# Altium footprint library 拨码开关2.PcbLib: 1 footprints
Each footprint in its own frame and in the unit in brackets; x right, y up, seen from the top. Pads: shape width x height; smd on the part's side, far side on the other; paste and mask are expansions set on the pad; w line width, h text height; cw(c..) or ccw(c..) is an arc to the next point about the centre after c.
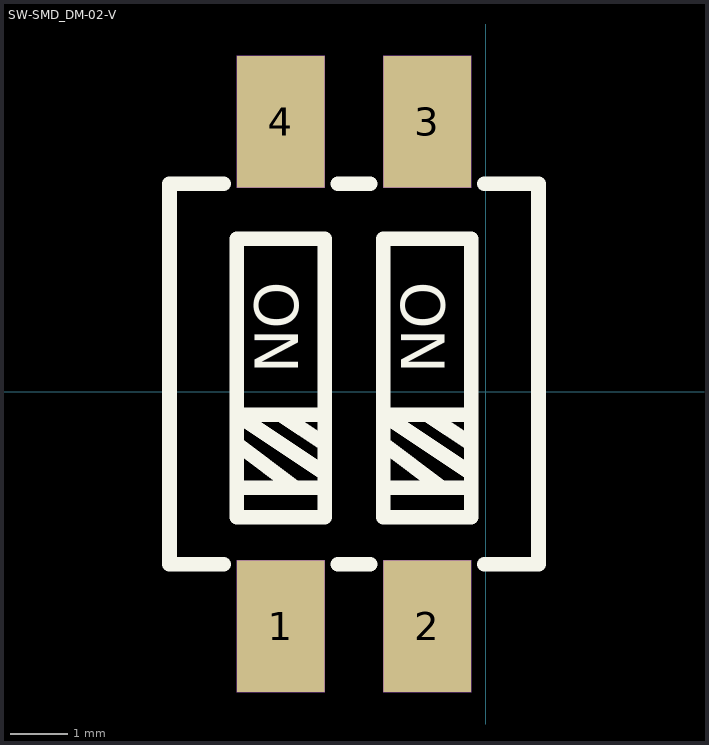
[diagram p0: the footprint, top view; thin cyan lines are the x and y axes]

## SW-SMD_DM-02-V [mil]
pads (4):
  rect 60x90 smd: 1(-140,-160) 2(-40,-160) 3(-40,184.49) 4(-140,184.49)
Top Overlay:
  lines w10: -179.1,-117.68 -215.98,-117.68 -215.98,142.17 -179.1,142.17 ; -170,-65.51 -110,-65.51 ; -170,-35.51 -130,-65.51 ; -140,-15.51 -110,-35.51 ; -110,-55.51 -170,-15.51 -110,-15.51 ; -100.9,-117.68 -79.1,-117.68 ; -100.9,142.17 -79.1,142.17 ; -70,-65.51 -10,-65.51 ; -70,-35.51 -30,-65.51 ; -40,-15.51 -10,-35.51 ; -10,-55.51 -70,-15.51 -10,-15.51 ; -0.9,-117.68 35.98,-117.68 35.98,142.17 -0.9,142.17 ; -170,-85.51 -110,-85.51 -110,104.49 -170,104.49 -170,-85.51 ; -70,-85.51 -70,104.49 -10,104.49 -10,-85.51 -70,-85.51
  text "ON" at -157.76,75.24 h30
  text "ON" at -57.76,75.24 h30
Mechanical 5:
  region: -170,229.49 -110,229.49 -110,139.49 -170,139.49
  region: -170,-115 -110,-115 -110,-205 -170,-205
  region: -70,-115 -10,-115 -10,-205 -70,-205
  region: -70,229.49 -10,229.49 -10,139.49 -70,139.49